# EAGLE library part LS0565SRWK (library LS0565SRWK)
DISPLAY, SEVEN SEGMENT, 0.56 INCH, RED Source: Datasheet <https://componentsearchengine.com/Datasheets/5/LS0565SRWK.pdf>
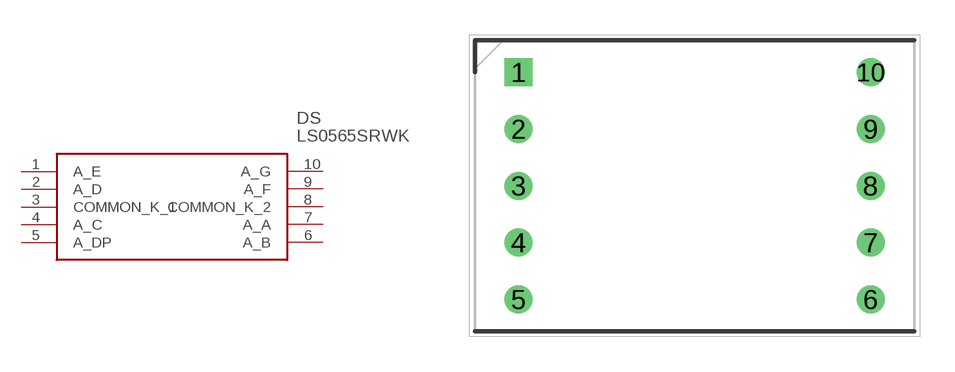
[diagram p0: symbol with the pads of DIPS1524W50P246L1260H800Q10N; footprint DIPS1524W50P246L1260H800Q10N]

Designator prefix DS

## LS0565SRWK (Description: DISPLAY, SEVEN SEGMENT, 0.56 INCH, RED; Height: 8mm; Manufacturer_Name: MULTICOMP; Manufacturer_Part_Number: LS0565SRWK)  [DIPS1524W50P246L1260H800Q10N]
1  A_E
2  A_D
3  COMMON_K_1
4  A_C
5  A_DP
6  A_B
7  A_A
8  COMMON_K_2
9  A_F
10  A_G

## Footprint DIPS1524W50P246L1260H800Q10N (pad centres in mm)
LS0565SRWK
drill 0.7 pad 1.1 square: 1 0,0
drill 0.7 pad 1.1: 2 0,-2.46; 3 0,-4.92; 4 0,-7.38; 5 0,-9.84; 6 15.24,-9.84; 7 15.24,-7.38; 8 15.24,-4.92; 9 15.24,-2.46; 10 15.24,0